# Altium footprint library C0402_0.55MM_MD.PcbLib: 1 footprints
Each footprint in its own frame and in the unit in brackets; x right, y up, seen from the top. Pads: shape width x height; smd on the part's side, far side on the other; paste and mask are expansions set on the pad; w line width, h text height; cw(c..) or ccw(c..) is an arc to the next point about the centre after c.
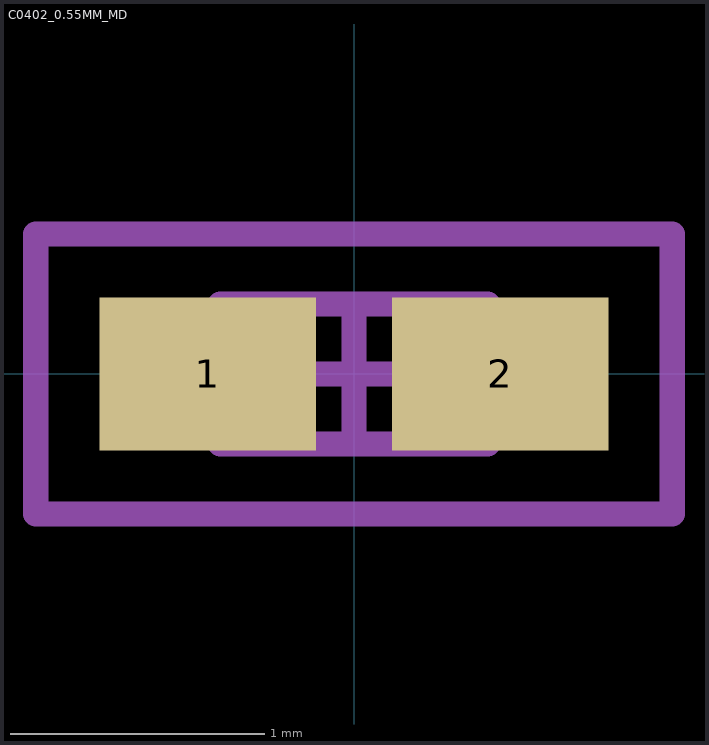
[diagram p0: the footprint, top view; thin cyan lines are the x and y axes]

## C0402_0.55MM_MD [mm] "Capacitor - 0402 - Medium Density"
height 0.55
pads (2):
  rect 0.85x0.6 smd: 1(-0.575,0) 2(0.575,0)
Mechanical 13:
  lines w0.1: -0.525,-0.275 -0.525,0.275 0.525,0.275 0.525,-0.275 -0.525,-0.275
Mechanical 15:
  lines w0.1: -0.275,0 0.275,0 ; 0,-0.275 0,0.275 ; -1.25,-0.55 -1.25,0.55 1.25,0.55 1.25,-0.55 -1.25,-0.55
3D body "0402_0.55mm.STEP": height 0.55, standoff 0, extent -0.5,-0.25 0.5,0.25